# Altium footprint library ferrite_beads.PcbLib: 1 footprints
Each footprint in its own frame and in the unit in brackets; x right, y up, seen from the top. Pads: shape width x height; smd on the part's side, far side on the other; paste and mask are expansions set on the pad; w line width, h text height; cw(c..) or ccw(c..) is an arc to the next point about the centre after c.
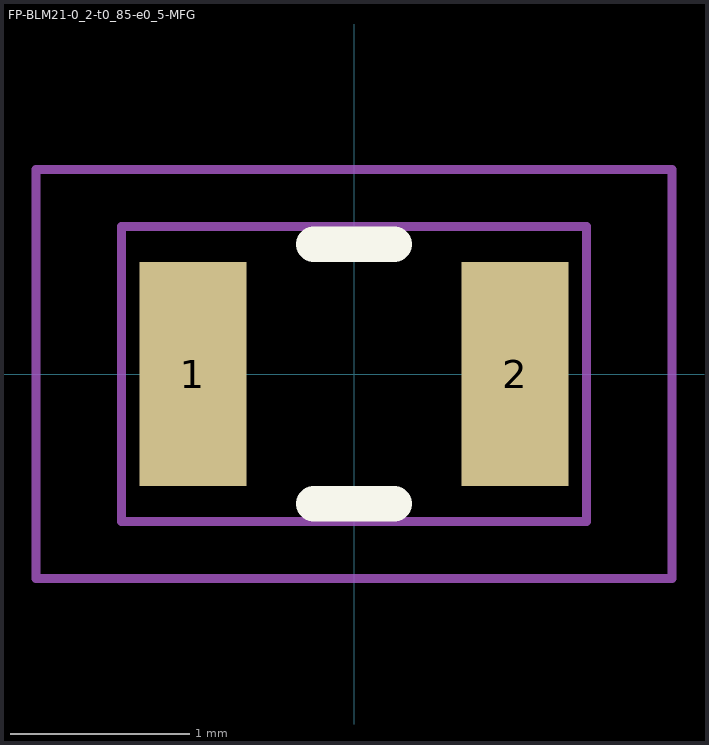
[diagram p0: the footprint, top view; thin cyan lines are the x and y axes]

## FP-BLM21-0_2-t0_85-e0_5-MFG [mm]
pads (2):
  rect 0.6x1.25 smd: 1(-0.9,0) 2(0.9,0)
Top Overlay:
  lines w0.2: -0.225,-0.725 0.225,-0.725 ; -0.225,0.725 0.225,0.725
Top Assembly:
  lines w0.051: -1.3,-0.825 -1.3,0.825 1.3,0.825 1.3,-0.825 -1.3,-0.825
Mechanical 15:
  lines w0.05: -1.778,-1.143 -1.778,1.143 1.778,1.143 1.778,-1.143 -1.778,-1.143
3D body "FBead_Murata_BLM21AG102SN1D_eec.STEP": height 0.25, standoff 0, extent -1.3,-0.825 1.3,0.825